# EAGLE library part TP4056 (library TP4056)
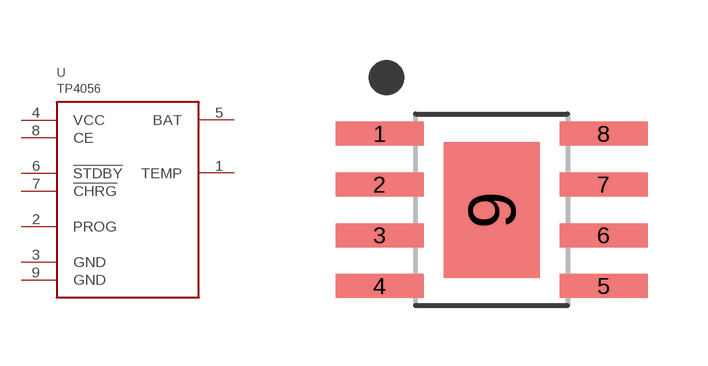
[diagram p0: symbol with the pads of SOP-8; footprint SOP-8]

Designator prefix U

## TP4056  [SOP-8]
1  TEMP
2  PROG
3  GND
4  VCC
5  BAT
6  !STDBY
7  !CHRG
8  CE
9  GND

## Footprint SOP-8 (pad centres in mm)
smd 2.2 x 0.6: 1 -2.8,1.905; 2 -2.8,0.635; 3 -2.8,-0.635; 4 -2.8,-1.905; 5 2.8,-1.905; 6 2.8,-0.635; 7 2.8,0.635; 8 2.8,1.905
smd 2.4 x 3.4: 9 0,0